# Altium schematic symbol library SchottkyDiode_FM5819-W.SchLib: 1 symbol
Pins are listed as number, name and electrical type; pins without a type are passive.

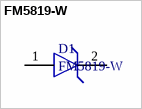
[diagram p0: symbol FM5819-W]

## FM5819-W
designator D1
Schottky Diodes & Rectifiers Vr/40V Io/1A T/R
footprint FM5819-W (Schottky Diodes & Rectifiers Vr/40V Io/1A T/R)
pins: 1, 2